# EAGLE library part P140KH (library pot-tt_electronics)
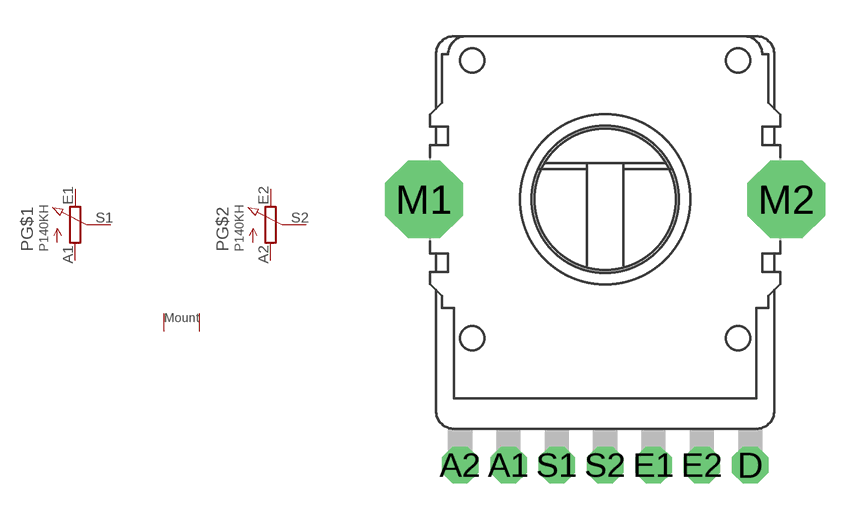
[diagram p14: symbol with the pads of P140KH; footprint P140KH]

Designator prefix P; gates G$1=POT_EU- G$2=POT_EU- G$3=MOUNT

## P140KH  [P140KH]
A1  G$1:A  pas
A2  G$2:A  pas
E1  G$1:E  pas
E2  G$2:E  pas
M1  G$3:GND  pas
M2  G$3:GND  pas
S1  G$1:S  pas
S2  G$2:S  pas

## Footprint P140KH (pad centres in mm)
drill 1 octagon: A1 -4,-11; A2 -6,-11; D 6,-11; E1 2,-11; E2 4,-11; S1 -2,-11; S2 0,-11
drill 2.2 octagon: M1 -7.5,0; M2 7.5,0